# Altium footprint library SamacSys.PcbLib: 28 footprints (part 2 of 2)
Each footprint in its own frame and in the unit in brackets; x right, y up, seen from the top. Pads: shape width x height; smd on the part's side, far side on the other; paste and mask are expansions set on the pad; w line width, h text height; cw(c..) or ccw(c..) is an arc to the next point about the centre after c.
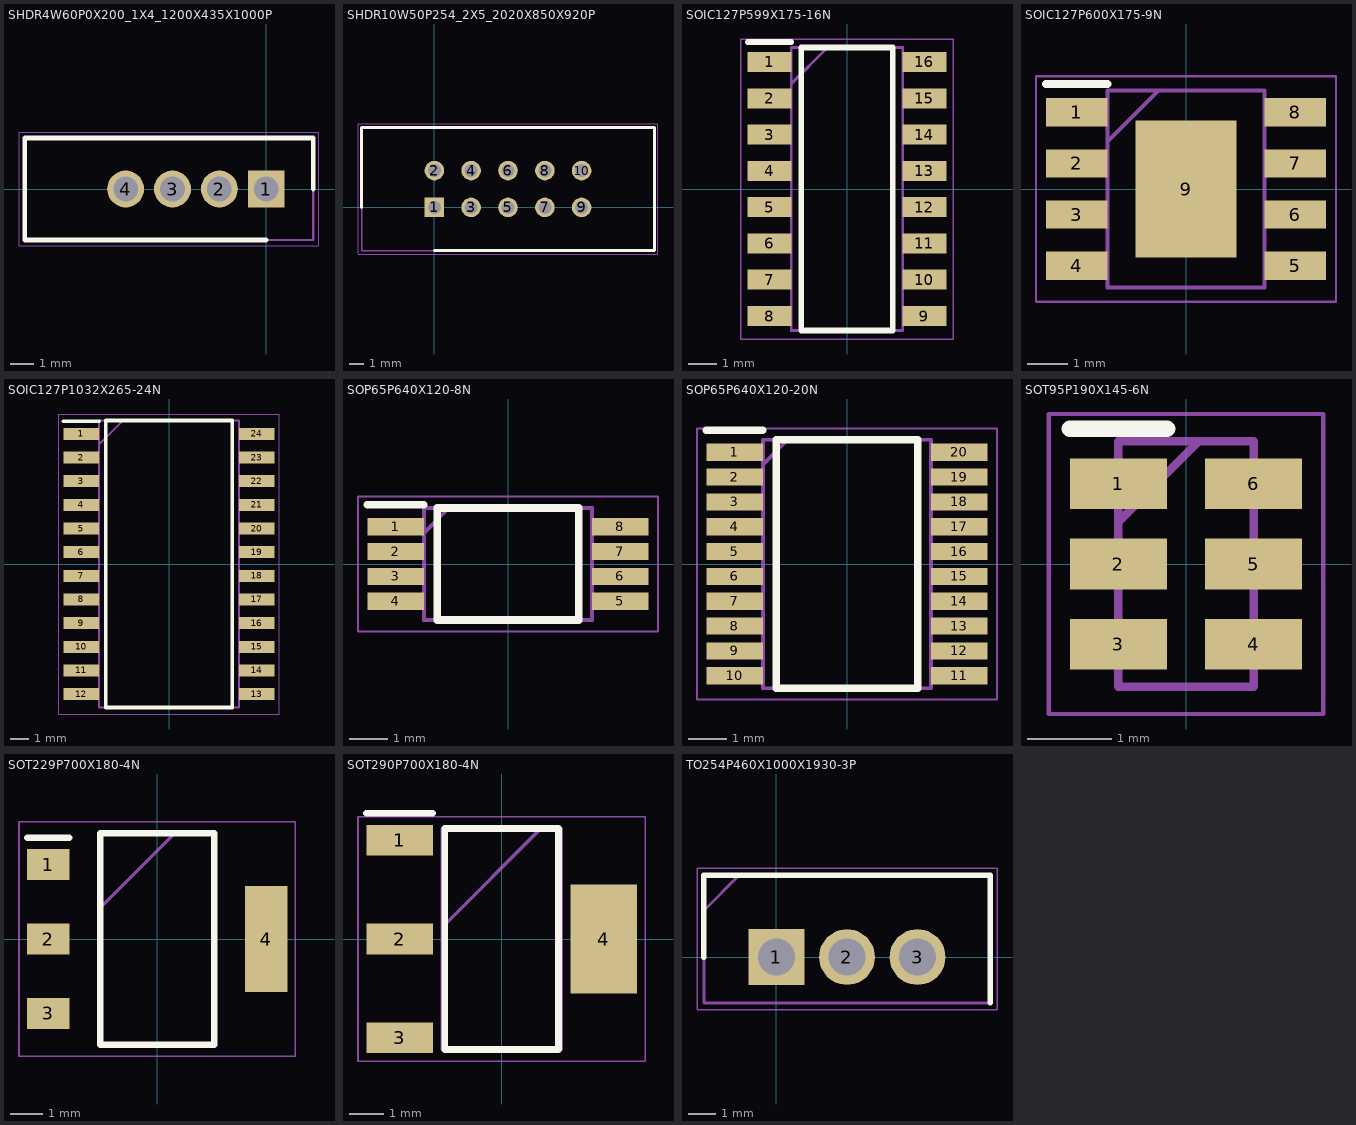
[diagram p1: the footprints below, top view; thin cyan lines are the x and y axes]

## SHDR4W60P0X200_1X4_1200X435X1000P [mm]
pads (4):
  rect 1.575x1.575 hole 1.05: 1(0,0)
  round 1.575 hole 1.05: 2(-2,0) 3(-4,0) 4(-6,0)
Top Overlay:
  lines w0.2: 0,-2.175 -10.3,-2.175 -10.3,2.175 2,2.175 2,0
Mechanical 13:
  lines w0.1: -10.3,-2.175 2,-2.175 2,2.175 -10.3,2.175 -10.3,-2.175
Mechanical 15:
  lines w0.05: -10.55,-2.425 2.25,-2.425 2.25,2.425 -10.55,2.425 -10.55,-2.425
3D body "53014-0410.stp": height 5.85, standoff -3.5, extent -7.45,-2.955 2.55,1.395

## SHDR10W50P254_2X5_2020X850X920P [mm]
pads (10):
  rect 1.35x1.35 hole 0.9: 1(0,0)
  round 1.35 hole 0.9: 2(0,2.54) 3(2.54,0) 4(2.54,2.54) 5(5.08,0) 6(5.08,2.54) 7(7.62,0) 8(7.62,2.54) 9(10.16,0) 10(10.16,2.54)
Top Overlay:
  lines w0.2: -5.02,0 -5.02,5.52 15.18,5.52 15.18,-2.98 0,-2.98
Mechanical 13:
  lines w0.1: -5.02,-2.98 15.18,-2.98 15.18,5.52 -5.02,5.52 -5.02,-2.98
Mechanical 15:
  lines w0.05: -5.27,-3.23 15.43,-3.23 15.43,5.77 -5.27,5.77 -5.27,-3.23
3D body "HIF3FC-10PA-2.54DSA_71_.stp": height 9.2, standoff -2.8, extent -5.02,-2.98 15.18,5.52

## SOIC127P599X175-16N [mm]
pads (16):
  rect 1.526x0.7 smd: 1(-2.712,4.445) 2(-2.712,3.175) 3(-2.712,1.905) 4(-2.712,0.635) 5(-2.712,-0.635) 6(-2.712,-1.905) 7(-2.712,-3.175) 8(-2.712,-4.445) 9(2.712,-4.445) 10(2.712,-3.175) 11(2.712,-1.905) 12(2.712,-0.635) 13(2.712,0.635) 14(2.712,1.905) 15(2.712,3.175) 16(2.712,4.445)
Top Overlay:
  lines w0.2: -3.475,5.145 -1.95,5.145 ; -1.6,-4.951 -1.6,4.951 1.6,4.951 1.6,-4.951 -1.6,-4.951
Mechanical 13:
  lines w0.1: -1.95,3.681 -0.68,4.951 ; -1.95,-4.951 -1.95,4.951 1.95,4.951 1.95,-4.951 -1.95,-4.951
Mechanical 15:
  lines w0.05: -3.725,-5.25 -3.725,5.25 3.725,5.25 3.725,-5.25 -3.725,-5.25
3D body "CD4051BCM.stp": height 1.75, standoff 0, extent -2.997,-4.951 2.997,4.951

## SOIC127P600X175-8N [mm]

## SOIC127P600X175-9N [mm]
pads (9):
  rect 1.525x0.7 smd: 1(-2.712,1.905) 2(-2.712,0.635) 3(-2.712,-0.635) 4(-2.712,-1.905) 5(2.712,-1.905) 6(2.712,-0.635) 7(2.712,0.635) 8(2.712,1.905)
  rect 2.513x3.402 smd: 9(0,0)
Top Overlay:
  lines w0.2: -3.475,2.605 -1.95,2.605
Mechanical 13:
  lines w0.1: -1.95,1.18 -0.68,2.45 ; -1.95,-2.45 -1.95,2.45 1.95,2.45 1.95,-2.45 -1.95,-2.45
Mechanical 15:
  lines w0.05: -3.725,-2.8 -3.725,2.8 3.725,2.8 3.725,-2.8 -3.725,-2.8
3D body "TP4056.stp": height 1.75, standoff 0, extent -3,-2.45 3,2.45

## SOIC127P1032X265-24N [mm]
pads (24):
  rect 1.925x0.65 smd: 1(-4.712,6.985) 2(-4.712,5.715) 3(-4.712,4.445) 4(-4.712,3.175) 5(-4.712,1.905) 6(-4.712,0.635) 7(-4.712,-0.635) 8(-4.712,-1.905) 9(-4.712,-3.175) 10(-4.712,-4.445) 11(-4.712,-5.715) 12(-4.712,-6.985) 13(4.712,-6.985) 14(4.712,-5.715) 15(4.712,-4.445) 16(4.712,-3.175) 17(4.712,-1.905) 18(4.712,-0.635) 19(4.712,0.635) 20(4.712,1.905) 21(4.712,3.175) 22(4.712,4.445) 23(4.712,5.715) 24(4.712,6.985)
Top Overlay:
  lines w0.2: -5.675,7.66 -3.75,7.66 ; -3.4,-7.7 -3.4,7.7 3.4,7.7 3.4,-7.7 -3.4,-7.7
Mechanical 13:
  lines w0.1: -3.75,6.43 -2.48,7.7 ; -3.75,-7.7 -3.75,7.7 3.75,7.7 3.75,-7.7 -3.75,-7.7
Mechanical 15:
  lines w0.05: -5.925,-8.05 -5.925,8.05 5.925,8.05 5.925,-8.05 -5.925,-8.05
3D body "ADE7758.stp": height 2.65, standoff 0, extent -5.162,-7.7 5.162,7.7

## SOP65P640X120-8N [mm]
pads (8):
  rect 1.475x0.45 smd: 1(-2.938,0.975) 2(-2.938,0.325) 3(-2.938,-0.325) 4(-2.938,-0.975) 5(2.938,-0.975) 6(2.938,-0.325) 7(2.938,0.325) 8(2.938,0.975)
Top Overlay:
  lines w0.2: -3.675,1.55 -2.2,1.55 ; -1.85,-1.465 -1.85,1.465 1.85,1.465 1.85,-1.465 -1.85,-1.465
Mechanical 13:
  lines w0.1: -2.2,0.815 -1.55,1.465 ; -2.2,-1.465 -2.2,1.465 2.2,1.465 2.2,-1.465 -2.2,-1.465
Mechanical 15:
  lines w0.05: -3.925,-1.765 -3.925,1.765 3.925,1.765 3.925,-1.765 -3.925,-1.765
3D body "FS8205A.stp": height 1.2, standoff 0, extent -3.2,-1.465 3.2,1.465

## SOP65P640X120-20N [mm]
pads (20):
  rect 1.475x0.45 smd: 1(-2.938,2.925) 2(-2.938,2.275) 3(-2.938,1.625) 4(-2.938,0.975) 5(-2.938,0.325) 6(-2.938,-0.325) 7(-2.938,-0.975) 8(-2.938,-1.625) 9(-2.938,-2.275) 10(-2.938,-2.925) 11(2.938,-2.925) 12(2.938,-2.275) 13(2.938,-1.625) 14(2.938,-0.975) 15(2.938,-0.325) 16(2.938,0.325) 17(2.938,0.975) 18(2.938,1.625) 19(2.938,2.275) 20(2.938,2.925)
Top Overlay:
  lines w0.2: -3.675,3.5 -2.2,3.5 ; -1.85,-3.25 -1.85,3.25 1.85,3.25 1.85,-3.25 -1.85,-3.25
Mechanical 13:
  lines w0.1: -2.2,2.6 -1.55,3.25 ; -2.2,-3.25 -2.2,3.25 2.2,3.25 2.2,-3.25 -2.2,-3.25
Mechanical 15:
  lines w0.05: -3.925,-3.55 -3.925,3.55 3.925,3.55 3.925,-3.55 -3.925,-3.55
3D body "TXS0108EPWR.stp": height 1.13, standoff 0, extent -3.2,-3.25 3.2,3.25

## SOT95P190X145-6N [mm]
pads (6):
  rect 1.15x0.6 smd: 1(-0.8,0.95) 2(-0.8,0) 3(-0.8,-0.95) 4(0.8,-0.95) 5(0.8,0) 6(0.8,0.95)
Top Overlay:
  lines w0.2: -1.375,1.6 -0.225,1.6
Mechanical 13:
  lines w0.1: -0.8,0.5 0.15,1.45 ; -0.8,-1.45 -0.8,1.45 0.8,1.45 0.8,-1.45 -0.8,-1.45
Mechanical 15:
  lines w0.05: -1.625,-1.775 -1.625,1.775 1.625,1.775 1.625,-1.775 -1.625,-1.775
3D body "DW01A-G.stp": height 1.45, standoff 0, extent -1.5,-1.525 1.5,1.525

## SOT229P700X180-4N [mm]
pads (4):
  rect 1.3x0.95 smd: 1(-3.35,2.29) 2(-3.35,0) 3(-3.35,-2.29)
  rect 1.3x3.25 smd: 4(3.35,0)
Top Overlay:
  lines w0.2: -4,3.115 -2.7,3.115 ; -1.752,-3.252 -1.752,3.252 1.752,3.252 1.752,-3.252 -1.752,-3.252
Mechanical 13:
  lines w0.1: -1.752,0.962 0.538,3.252 ; -1.752,-3.252 -1.752,3.252 1.752,3.252 1.752,-3.252 -1.752,-3.252
Mechanical 15:
  lines w0.05: -4.25,-3.605 -4.25,3.605 4.25,3.605 4.25,-3.605 -4.25,-3.605
3D body "AMS1117-1.5.stp": height 1.8, standoff 0, extent -3.5,-3.253 3.5,3.253

## SOT290P700X180-4N [mm]
pads (4):
  rect 1.95x0.9 smd: 1(-3,2.9) 2(-3,0) 3(-3,-2.9)
  rect 1.95x3.2 smd: 4(3,0)
Top Overlay:
  lines w0.2: -3.975,3.7 -2.025,3.7 ; -1.675,-3.25 -1.675,3.25 1.675,3.25 1.675,-3.25 -1.675,-3.25
Mechanical 13:
  lines w0.1: -1.75,0.35 1.15,3.25 ; -1.75,-3.25 -1.75,3.25 1.75,3.25 1.75,-3.25 -1.75,-3.25
Mechanical 15:
  lines w0.05: -4.225,-3.6 -4.225,3.6 4.225,3.6 4.225,-3.6 -4.225,-3.6
3D body "AMS1117-5.0.stp": height 1.8, standoff 0, extent -3.5,-3.25 3.5,3.25

## TO254P460X1000X1930-3P [mm]
pads (3):
  rect 2.01x2.01 hole 1.34: 1(0,0)
  round 2.01 hole 1.34: 2(2.54,0) 3(5.08,0)
Top Overlay:
  lines w0.2: -2.61,0 -2.61,2.95 7.69,2.95 7.69,-1.65
Mechanical 13:
  lines w0.1: -2.61,1.68 -1.34,2.95 ; -2.61,-1.65 -2.61,2.95 7.69,2.95 7.69,-1.65 -2.61,-1.65
Mechanical 15:
  lines w0.05: -2.86,-1.9 -2.86,3.2 7.94,3.2 7.94,-1.9 -2.86,-1.9
3D body "BT136X-600E_DG,127.stp": height 18.54, standoff -18.2, extent -2.46,-1.65 7.54,2.95